# Altium footprint library PCB - LEADED - SOT95P280X145-3N.PCBLIB: 1 footprints
Each footprint in its own frame and in the unit in brackets; x right, y up, seen from the top. Pads: shape width x height; smd on the part's side, far side on the other; paste and mask are expansions set on the pad; w line width, h text height; cw(c..) or ccw(c..) is an arc to the next point about the centre after c.
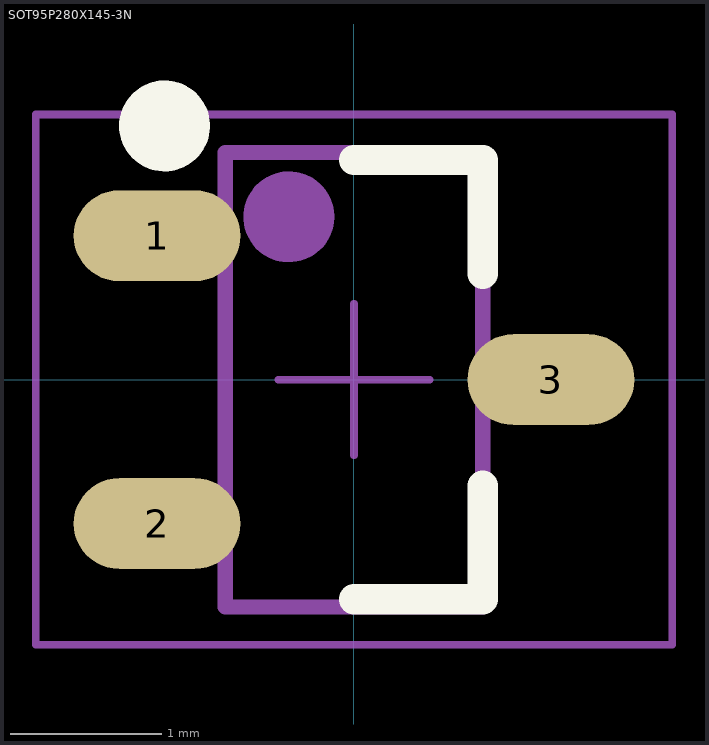
[diagram p0: the footprint, top view; thin cyan lines are the x and y axes]

## SOT95P280X145-3N [mm] "SOT23, 3-Leads, Body 3,0x3,0mm (max), Pitch 0,95mm, IPC Medium Density"
height 1.45
pads (3):
  oval 1.1x0.6 smd: 1(-1.3,0.95) 2(-1.3,-0.95) 3(1.3,0)
Top Overlay:
  circle w0.3: c-1.25,1.675 r0.15
  lines w0.2: 0,-1.45 0.85,-1.45 0.85,-0.7 ; 0,1.45 0.85,1.45 0.85,0.7
Top Assembly:
  circle w0.3: c-0.43,1.075 r0.15
  lines w0.05: -0.85,-1.15 -1.675,-1.15 -1.675,-0.75 -0.85,-0.75 ; -0.85,0.75 -1.675,0.75 -1.675,1.15 -0.85,1.15 ; 0.85,-0.2 1.675,-0.2 1.675,0.2 0.85,0.2
  lines w0.1: -0.85,-1.5 -0.85,1.5 0.85,1.5 0.85,-1.5 -0.85,-1.5
Top Courtyard:
  lines w0.05: -2.1,-1.75 2.1,-1.75 2.1,1.75 -2.1,1.75 -2.1,-1.75
Top Designator (Mech9):
  text ".Designator" at -4.848,2.592 h1
Top Component Center:
  lines w0.05: -0.5,0 0.5,0 ; 0,-0.5 0,0.5
3D body "SW3dPS-3-lead sot23-3.STEP": height 1.01, standoff -0.01, extent -1.25,-1.46 1.226,1.46